# Altium schematic symbol library KMR621NGLFS.SchLib: 1 symbol
Pins are listed as number, name and electrical type; pins without a type are passive.

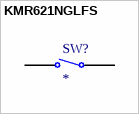
[diagram p0: symbol KMR621NGLFS]

## KMR621NGLFS
designator SW?
footprint SW_KMR621NGLFS
pins: 1, 2